# Altium integrated library AMCC PowerPC 405.IntLib: 46 symbols (part 2 of 12)
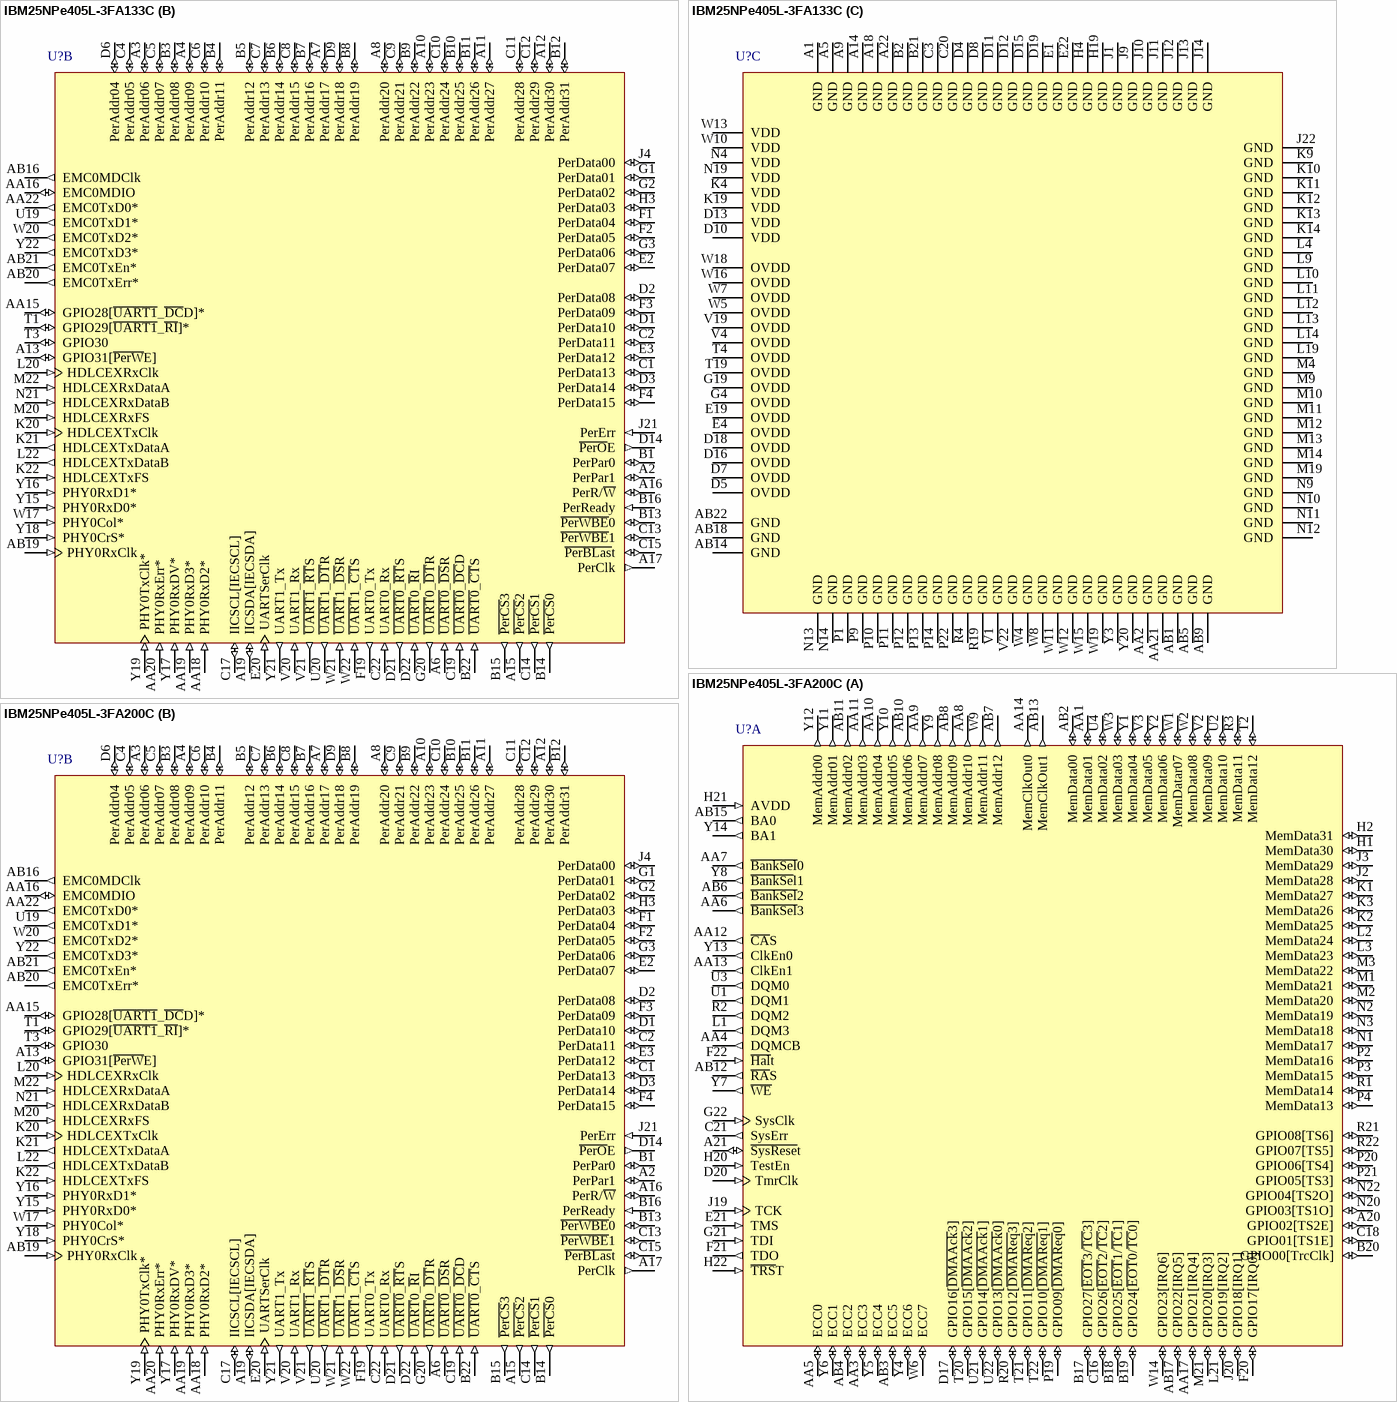
[diagram p119: symbols IBM25NPe405L-3FA133C to IBM25NPe405L-3FA200C]

## IBM25NPe405L-3FA133C
designator U?
PowerNP Technology with IBM PowerPC,  405L Embedded Processor, 133MHz, 23mm, 324 Ball E-PBGA; Note: Pin names with asterisk have Ethernet and HDLCEX interface multifunctions. See description field for those functions.; Published: 6-Oct-2005; LatestRevisionDate: 13-Apr-2006; LatestRevisionNote: IPC-7351 Footprint Added.; DatasheetVersion: rev1.00, Sep-2004; PackageVersion: Sep-2004; PackageReference: E-PBGA324; Publisher: Altium Limited; PackageDescription: 324-Ball Enhanced Plastic Ball Grid Array; ComponentLink1Description: Manufacturer Link; ComponentLink1URL: http://www.amcc.com/; ComponentLink2Description: Datasheet; ComponentLink2URL: https://www.amcc.com/MyAMCC/retrieveDocument/PowerPC/NPe405/NPe405L_DS2012__v1_00.pdf
footprint E-PBGA324 (BGA, 324-Leads, Body 23x23mm, Pitch 1mm)
3D model NPe405L-E-PBGA324 (324-Ball Enhanced Plastic Ball Grid Array)
part A pins: A20 GPIO02[TS2E] (io), A21 ~{SysRese}t (io), AA1 MemData01 (io), AA3 ECC3 (io), AA4 DQMCB (out), AA5 ECC0 (io), AA6 ~{BankSel}3 (out), AA7 ~{BankSel}0 (out), AA8 MemAddr10 (out), AA9 MemAddr07 (out), AA10 MemAddr04 (out), AA11 MemAddr03 (out), AA12 ~{CA}S (out), AA13 ClkEn1 (out), AA14 MemClkOut0 (out), AA17 GPIO21[IRQ4] (io), AB2 MemData00 (io), AB3 ECC5 (io), AB4 ECC2 (io), AB6 ~{BankSel}2 (out), AB7 MemAddr12 (out), AB8 MemAddr09 (out), AB10 MemAddr06 (out), AB11 MemAddr02 (out), AB12 ~{RA}S (out), AB13 MemClkOut1 (out), AB15 BA0 (out), AB17 GPIO22[IRQ5] (io), B17 GPIO27[~{EOT}3/~{TC}3] (io), B18 GPIO25[~{EOT}1/~{TC}1] (io), B19 GPIO24[~{EOT}0/~{TC}0] (io), B20 GPIO00[TrcClk] (io), C16 GPIO26[~{EOT}2/~{TC}2] (io), C18 GPIO01[TS1E] (io), C21 SysErr (out), D17 GPIO16[~{DMAAck}3] (io), D20 TmrClk (in), E21 TMS (in), F20 GPIO17[IRQ0] (io), F21 TDO (out), F22 ~{Hal}t (in), G21 TDI (in), G22 SysClk (in), H1 MemData30 (io), H2 MemData31 (io), H20 TestEn (in), H21 AVDD (in), H22 ~{TRS}T (in), J2 MemData28 (io), J3 MemData29 (io), J19 TCK (in), J20 GPIO18[IRQ1] (io), K1 MemData27 (io), K2 MemData25 (io), K3 MemData26 (io), L1 DQM3 (out), L2 MemData24 (io), L3 MemData23 (io), L21 GPIO19[IRQ2] (io), M1 MemData21 (io), M2 MemData20 (io), M3 MemData22 (io), M21 GPIO20[IRQ3] (io), N1 MemData17 (io), N2 MemData19 (io), N3 MemData18 (io), N20 GPIO03[TS1O] (io), N22 GPIO04[TS2O] (io), P2 MemData16 (io), P3 MemData15 (io), P4 MemData13 (io), P19 GPIO09[~{DMAReq}0] (io), P20 GPIO06[TS4] (io), P21 GPIO05[TS3] (io), R1 MemData14 (io), R2 DQM2 (out), R3 MemData11 (io), R20 GPIO12[~{DMAReq}3] (io), R21 GPIO08[TS6] (io), R22 GPIO07[TS5] (io), T2 MemData12 (io), T20 GPIO15[~{DMAAck}2] (io), T21 GPIO11[~{DMAReq}2] (io), T22 GPIO10[~{DMAReq}1] (io), U1 DQM1 (out), U2 MemData10 (io), U3 DQM0 (out), U4 MemData02 (io), U21 GPIO14[~{DMAAck}1] (io), U22 GPIO13[~{DMAAck}0] (io), V2 MemData09 (io), V3 MemData05 (io), W1 MemDatar07 (io), W2 MemData08 (io), W3 MemData03 (io), W6 ECC7 (io), W9 MemAddr11 (out), W14 GPIO23[IRQ6] (io), Y1 MemData04 (io), Y2 MemData06 (io), Y4 ECC6 (io), Y5 ECC4 (io), Y6 ECC1 (io), Y7 ~{WE} (out), Y8 ~{BankSe}l1 (out), Y9 MemAddr08 (out), Y10 MemAddr05 (out), Y11 MemAddr01 (out), Y12 MemAddr00 (out), Y13 ClkEn0 (out), Y14 BA1 (out)
part B pins: A2 PerPar1 (io), A3 PerAddr06 (io), A4 PerAddr09 (io), A6 ~{UART0}_~{DS}R (in), A7 PerAddr17 (io), A8 PerAddr20 (io), A10 PerAddr23 (io), A11 PerAddr27 (io), A12 PerAddr30 (io), A13 GPIO31[~{PerW}E] (io), A15 ~{PerCS}2 (out), A16 PerR/~{W} (io), A17 PerClk (out), A19 IICSDA[IECSDA] (io), AA15 GPIO28[~{UART1}_~{DC}D]* (io) "[H\D\L\C\EXTxEnA]", AA16 EMC0MDIO (io), AA18 PHY0RxD2* (in) "[PHY0Rx1D0]", AA19 PHY0RxD3* (in) "[PHY0Rx1D1]", AA20 PHY0RxErr* (in) "[PHY0Rx0Er]", AA22 EMC0TxD0* (out) "[EMC0Tx0D0][EMC0Tx0D]", AB16 EMC0MDClk (out), AB19 PHY0RxClk (in), AB20 EMC0TxErr* (out) "[EMC0Tx1En]", AB21 EMC0TxEn* (out) "[EMC0Tx0En][EMC0Sync]", B1 PerPar0 (io), B3 PerAddr08 (io), B4 PerAddr11 (io), B5 PerAddr12 (io), B6 PerAddr14 (io), B7 PerAddr16 (io), B8 PerAddr19 (io), B9 PerAddr22 (io), B10 PerAddr25 (io), B11 PerAddr26 (io), B12 PerAddr31 (io), B13 ~{PerWBE}0 (io), B14 ~{PerCS}0 (out), B15 ~{PerCS}3 (out), B16 PerReady (in), B22 ~{UART0}_~{CT}S (in), C1 PerData13 (io), C2 PerData11 (io), C4 PerAddr05 (io), C5 PerAddr07 (io), C6 PerAddr10 (io), C7 PerAddr13 (io), C8 PerAddr15 (io), C9 PerAddr21 (io), C10 PerAddr24 (io), C11 PerAddr28 (io), C12 PerAddr29 (io), C13 ~{PerWBE}1 (io), C14 ~{PerCS}1 (out), C15 ~{PerBLas}t (io), C17 IICSCL[IECSCL] (io), C19 ~{UART0}_~{DC}D (in), C22 UART0_Rx (in), D1 PerData10 (io), D2 PerData08 (io), D3 PerData14 (io), D6 PerAddr04 (io), D9 PerAddr18 (io), D14 ~{PerO}E (out), D21 ~{UART0}_~{RT}S (out), D22 ~{UART}0_~{R}I (in), E2 PerData07 (io), E3 PerData12 (io), E20 UARTSerClk (in), F1 PerData04 (io), F2 PerData05 (io), F3 PerData09 (io), F4 PerData15 (io), F19 UART0_Tx (out), G1 PerData01 (io), G2 PerData02 (io), G3 PerData06 (io), G20 ~{UART}0_~{DT}R (out), H3 PerData03 (io), J4 PerData00 (io), J21 PerErr (in), K20 HDLCEXTxClk (in), K21 HDLCEXTxDataA (out), K22 HDLCEXTxFS (in), L20 HDLCEXRxClk (in), L22 HDLCEXTxDataB (out), M20 HDLCEXRxFS (in), M22 HDLCEXRxDataA (in), N21 HDLCEXRxDataB (in), T1 GPIO29[~{UART1}_~{RI}]* (io) "[H\D\L\C\E\X\T\x\E\n\B]", T3 GPIO30 (io), U19 EMC0TxD1* (out) "[EMC0Tx0D1][EMC0Tx1D]", U20 ~{UART}1_~{DT}R (out), V20 UART1_Rx (in), V21 ~{UART1}_~{RT}S (out), W17 PHY0Col* (in) "[PHY0Rx1Er]", W20 EMC0TxD2* (out) "[EMC0Tx1D0]", W21 ~{UART}1_~{DS}R (in), W22 ~{UART}1_~{CT}S (in), Y15 PHY0RxD0* (in) "[PHY0Rx0D0][PHY0Rx0D]", Y16 PHY0RxD1* (in) "[PHY0Rx0D1][PHY0Rx1D]", Y17 PHY0RxDV* (in) "[PHY0CrS1DV]", Y18 PHY0CrS* (in) "[PHY0CrS0DV]", Y19 PHY0TxClk* (in) "[PHY0RefClk]", Y21 UART1_Tx (out), Y22 EMC0TxD3* (out) "[EMC0Tx1D1]"
part C pins: A1 GND (power), A5 GND (power), A9 GND (power), A14 GND (power), A18 GND (power), A22 GND (power), AA2 GND (power), AA21 GND (power), AB1 GND (power), AB5 GND (power), AB9 GND (power), AB14 GND (power), AB18 GND (power), AB22 GND (power), B2 GND (power), B21 GND (power), C3 GND (power), C20 GND (power), D4 GND (power), D5 OVDD (power), D7 OVDD (power), D8 GND (power), D10 VDD (power), D11 GND (power), D12 GND (power), D13 VDD (power), D15 GND (power), D16 OVDD (power), D18 OVDD (power), D19 GND (power), E1 GND (power), E4 OVDD (power), E19 OVDD (power), E22 GND (power), G4 OVDD (power), G19 OVDD (power), H4 GND (power), H19 GND (power), J1 GND (power), J9 GND (power) "Thermal Balls", J10 GND (power) "Thermal Balls", J11 GND (power) "Thermal Balls", J12 GND (power) "Thermal Balls", J13 GND (power) "Thermal Balls", J14 GND (power) "Thermal Balls", J22 GND (power), K4 VDD (power), K9 GND (power) "Thermal Balls", K10 GND (power) "Thermal Balls", K11 GND (power) "Thermal Balls", K12 GND (power) "Thermal Balls", K13 GND (power) "Thermal Balls", K14 GND (power) "Thermal Balls", K19 VDD (power), L4 GND (power), L9 GND (power) "Thermal Balls", L10 GND (power) "Thermal Balls", L11 GND (power) "Thermal Balls", L12 GND (power) "Thermal Balls", L13 GND (power) "Thermal Balls", L14 GND (power) "Thermal Balls", L19 GND (power), M4 GND (power), M9 GND (power) "Thermal Balls", M10 GND (power) "Thermal Balls", M11 GND (power) "Thermal Balls", M12 GND (power) "Thermal Balls", M13 GND (power) "Thermal Balls", M14 GND (power) "Thermal Balls", M19 GND (power), N4 VDD (power), N9 GND (power) "Thermal Balls", N10 GND (power) "Thermal Balls", N11 GND (power) "Thermal Balls", N12 GND (power) "Thermal Balls", N13 GND (power) "Thermal Balls", N14 GND (power) "Thermal Balls", N19 VDD (power), P1 GND (power), P9 GND (power) "Thermal Balls", P10 GND (power) "Thermal Balls", P11 GND (power) "Thermal Balls", P12 GND (power) "Thermal Balls", P13 GND (power) "Thermal Balls", P14 GND (power) "Thermal Balls", P22 GND (power), R4 GND (power), R19 GND (power), T4 OVDD (power), T19 OVDD (power), V1 GND (power), V4 OVDD (power), V19 OVDD (power), V22 GND (power), W4 GND (power), W5 OVDD (power), W7 OVDD (power), W8 GND (power), W10 VDD (power), W11 GND (power), W12 GND (power), W13 VDD (power), W15 GND (power), W16 OVDD (power), W18 OVDD (power), W19 GND (power), Y3 GND (power), Y20 GND (power)

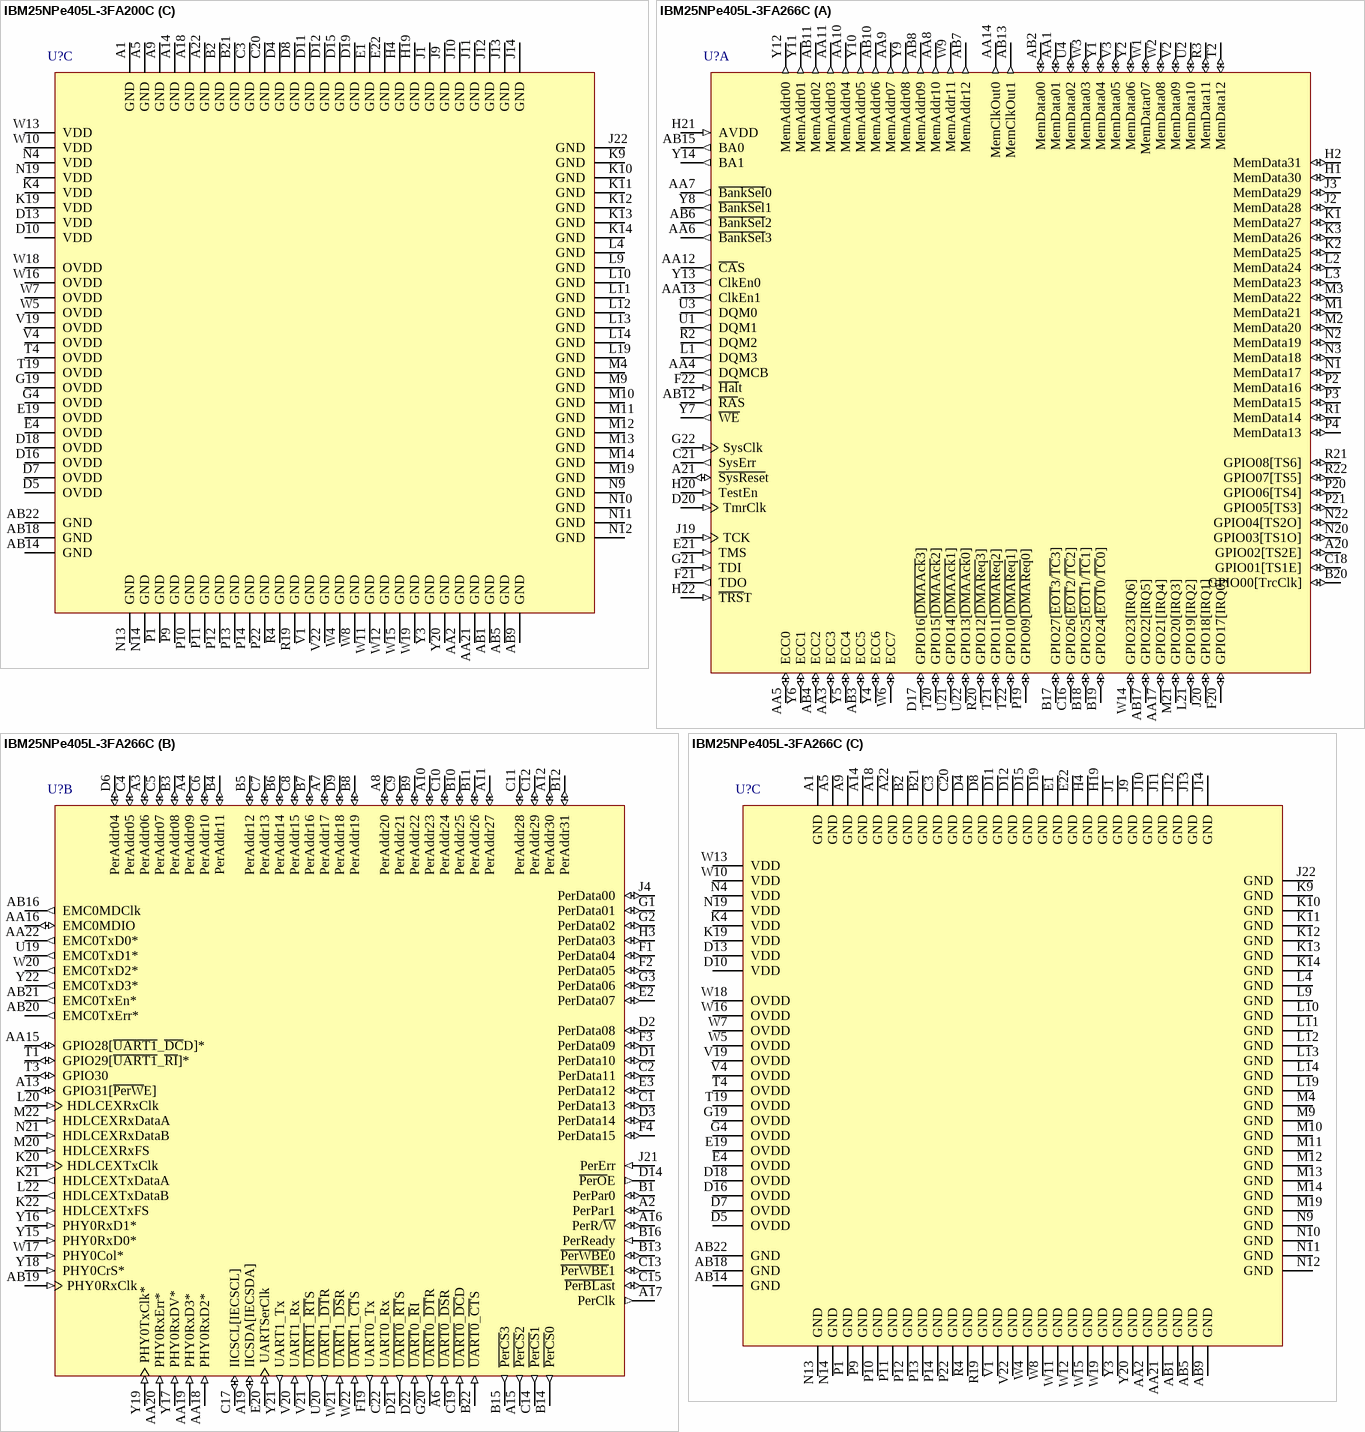
[diagram p10: symbols IBM25NPe405L-3FA200C to IBM25NPe405L-3FA266C]

## IBM25NPe405L-3FA200C
designator U?
PowerNP Technology with IBM PowerPC,  405L Embedded Processor, 200MHz, 23mm, 324 Ball E-PBGA; Note: Pin names with asterisk have Ethernet and HDLCEX interface multifunctions. See description field for those functions.; Published: 6-Oct-2005; LatestRevisionDate: 13-Apr-2006; LatestRevisionNote: IPC-7351 Footprint Added.; DatasheetVersion: rev1.00, Sep-2004; PackageVersion: Sep-2004; PackageReference: E-PBGA324; Publisher: Altium Limited; PackageDescription: 324-Ball Enhanced Plastic Ball Grid Array; ComponentLink1Description: Manufacturer Link; ComponentLink1URL: http://www.amcc.com/; ComponentLink2Description: Datasheet; ComponentLink2URL: https://www.amcc.com/MyAMCC/retrieveDocument/PowerPC/NPe405/NPe405L_DS2012__v1_00.pdf
footprint E-PBGA324 (BGA, 324-Leads, Body 23x23mm, Pitch 1mm)
3D model NPe405L-E-PBGA324 (324-Ball Enhanced Plastic Ball Grid Array)
part A pins: A20 GPIO02[TS2E] (io), A21 ~{SysRese}t (io), AA1 MemData01 (io), AA3 ECC3 (io), AA4 DQMCB (out), AA5 ECC0 (io), AA6 ~{BankSel}3 (out), AA7 ~{BankSel}0 (out), AA8 MemAddr10 (out), AA9 MemAddr07 (out), AA10 MemAddr04 (out), AA11 MemAddr03 (out), AA12 ~{CA}S (out), AA13 ClkEn1 (out), AA14 MemClkOut0 (out), AA17 GPIO21[IRQ4] (io), AB2 MemData00 (io), AB3 ECC5 (io), AB4 ECC2 (io), AB6 ~{BankSel}2 (out), AB7 MemAddr12 (out), AB8 MemAddr09 (out), AB10 MemAddr06 (out), AB11 MemAddr02 (out), AB12 ~{RA}S (out), AB13 MemClkOut1 (out), AB15 BA0 (out), AB17 GPIO22[IRQ5] (io), B17 GPIO27[~{EOT}3/~{TC}3] (io), B18 GPIO25[~{EOT}1/~{TC}1] (io), B19 GPIO24[~{EOT}0/~{TC}0] (io), B20 GPIO00[TrcClk] (io), C16 GPIO26[~{EOT}2/~{TC}2] (io), C18 GPIO01[TS1E] (io), C21 SysErr (out), D17 GPIO16[~{DMAAck}3] (io), D20 TmrClk (in), E21 TMS (in), F20 GPIO17[IRQ0] (io), F21 TDO (out), F22 ~{Hal}t (in), G21 TDI (in), G22 SysClk (in), H1 MemData30 (io), H2 MemData31 (io), H20 TestEn (in), H21 AVDD (in), H22 ~{TRS}T (in), J2 MemData28 (io), J3 MemData29 (io), J19 TCK (in), J20 GPIO18[IRQ1] (io), K1 MemData27 (io), K2 MemData25 (io), K3 MemData26 (io), L1 DQM3 (out), L2 MemData24 (io), L3 MemData23 (io), L21 GPIO19[IRQ2] (io), M1 MemData21 (io), M2 MemData20 (io), M3 MemData22 (io), M21 GPIO20[IRQ3] (io), N1 MemData17 (io), N2 MemData19 (io), N3 MemData18 (io), N20 GPIO03[TS1O] (io), N22 GPIO04[TS2O] (io), P2 MemData16 (io), P3 MemData15 (io), P4 MemData13 (io), P19 GPIO09[~{DMAReq}0] (io), P20 GPIO06[TS4] (io), P21 GPIO05[TS3] (io), R1 MemData14 (io), R2 DQM2 (out), R3 MemData11 (io), R20 GPIO12[~{DMAReq}3] (io), R21 GPIO08[TS6] (io), R22 GPIO07[TS5] (io), T2 MemData12 (io), T20 GPIO15[~{DMAAck}2] (io), T21 GPIO11[~{DMAReq}2] (io), T22 GPIO10[~{DMAReq}1] (io), U1 DQM1 (out), U2 MemData10 (io), U3 DQM0 (out), U4 MemData02 (io), U21 GPIO14[~{DMAAck}1] (io), U22 GPIO13[~{DMAAck}0] (io), V2 MemData09 (io), V3 MemData05 (io), W1 MemDatar07 (io), W2 MemData08 (io), W3 MemData03 (io), W6 ECC7 (io), W9 MemAddr11 (out), W14 GPIO23[IRQ6] (io), Y1 MemData04 (io), Y2 MemData06 (io), Y4 ECC6 (io), Y5 ECC4 (io), Y6 ECC1 (io), Y7 ~{WE} (out), Y8 ~{BankSe}l1 (out), Y9 MemAddr08 (out), Y10 MemAddr05 (out), Y11 MemAddr01 (out), Y12 MemAddr00 (out), Y13 ClkEn0 (out), Y14 BA1 (out)
part B pins: A2 PerPar1 (io), A3 PerAddr06 (io), A4 PerAddr09 (io), A6 ~{UART0}_~{DS}R (in), A7 PerAddr17 (io), A8 PerAddr20 (io), A10 PerAddr23 (io), A11 PerAddr27 (io), A12 PerAddr30 (io), A13 GPIO31[~{PerW}E] (io), A15 ~{PerCS}2 (out), A16 PerR/~{W} (io), A17 PerClk (out), A19 IICSDA[IECSDA] (io), AA15 GPIO28[~{UART1}_~{DC}D]* (io) "[H\D\L\C\EXTxEnA]", AA16 EMC0MDIO (io), AA18 PHY0RxD2* (in) "[PHY0Rx1D0]", AA19 PHY0RxD3* (in) "[PHY0Rx1D1]", AA20 PHY0RxErr* (in) "[PHY0Rx0Er]", AA22 EMC0TxD0* (out) "[EMC0Tx0D0][EMC0Tx0D]", AB16 EMC0MDClk (out), AB19 PHY0RxClk (in), AB20 EMC0TxErr* (out) "[EMC0Tx1En]", AB21 EMC0TxEn* (out) "[EMC0Tx0En][EMC0Sync]", B1 PerPar0 (io), B3 PerAddr08 (io), B4 PerAddr11 (io), B5 PerAddr12 (io), B6 PerAddr14 (io), B7 PerAddr16 (io), B8 PerAddr19 (io), B9 PerAddr22 (io), B10 PerAddr25 (io), B11 PerAddr26 (io), B12 PerAddr31 (io), B13 ~{PerWBE}0 (io), B14 ~{PerCS}0 (out), B15 ~{PerCS}3 (out), B16 PerReady (in), B22 ~{UART0}_~{CT}S (in), C1 PerData13 (io), C2 PerData11 (io), C4 PerAddr05 (io), C5 PerAddr07 (io), C6 PerAddr10 (io), C7 PerAddr13 (io), C8 PerAddr15 (io), C9 PerAddr21 (io), C10 PerAddr24 (io), C11 PerAddr28 (io), C12 PerAddr29 (io), C13 ~{PerWBE}1 (io), C14 ~{PerCS}1 (out), C15 ~{PerBLas}t (io), C17 IICSCL[IECSCL] (io), C19 ~{UART0}_~{DC}D (in), C22 UART0_Rx (in), D1 PerData10 (io), D2 PerData08 (io), D3 PerData14 (io), D6 PerAddr04 (io), D9 PerAddr18 (io), D14 ~{PerO}E (out), D21 ~{UART0}_~{RT}S (out), D22 ~{UART}0_~{R}I (in), E2 PerData07 (io), E3 PerData12 (io), E20 UARTSerClk (in), F1 PerData04 (io), F2 PerData05 (io), F3 PerData09 (io), F4 PerData15 (io), F19 UART0_Tx (out), G1 PerData01 (io), G2 PerData02 (io), G3 PerData06 (io), G20 ~{UART}0_~{DT}R (out), H3 PerData03 (io), J4 PerData00 (io), J21 PerErr (in), K20 HDLCEXTxClk (in), K21 HDLCEXTxDataA (out), K22 HDLCEXTxFS (in), L20 HDLCEXRxClk (in), L22 HDLCEXTxDataB (out), M20 HDLCEXRxFS (in), M22 HDLCEXRxDataA (in), N21 HDLCEXRxDataB (in), T1 GPIO29[~{UART1}_~{RI}]* (io) "[H\D\L\C\E\X\T\x\E\n\B]", T3 GPIO30 (io), U19 EMC0TxD1* (out) "[EMC0Tx0D1][EMC0Tx1D]", U20 ~{UART}1_~{DT}R (out), V20 UART1_Rx (in), V21 ~{UART1}_~{RT}S (out), W17 PHY0Col* (in) "[PHY0Rx1Er]", W20 EMC0TxD2* (out) "[EMC0Tx1D0]", W21 ~{UART}1_~{DS}R (in), W22 ~{UART}1_~{CT}S (in), Y15 PHY0RxD0* (in) "[PHY0Rx0D0][PHY0Rx0D]", Y16 PHY0RxD1* (in) "[PHY0Rx0D1][PHY0Rx1D]", Y17 PHY0RxDV* (in) "[PHY0CrS1DV]", Y18 PHY0CrS* (in) "[PHY0CrS0DV]", Y19 PHY0TxClk* (in) "[PHY0RefClk]", Y21 UART1_Tx (out), Y22 EMC0TxD3* (out) "[EMC0Tx1D1]"
part C pins: A1 GND (power), A5 GND (power), A9 GND (power), A14 GND (power), A18 GND (power), A22 GND (power), AA2 GND (power), AA21 GND (power), AB1 GND (power), AB5 GND (power), AB9 GND (power), AB14 GND (power), AB18 GND (power), AB22 GND (power), B2 GND (power), B21 GND (power), C3 GND (power), C20 GND (power), D4 GND (power), D5 OVDD (power), D7 OVDD (power), D8 GND (power), D10 VDD (power), D11 GND (power), D12 GND (power), D13 VDD (power), D15 GND (power), D16 OVDD (power), D18 OVDD (power), D19 GND (power), E1 GND (power), E4 OVDD (power), E19 OVDD (power), E22 GND (power), G4 OVDD (power), G19 OVDD (power), H4 GND (power), H19 GND (power), J1 GND (power), J9 GND (power) "Thermal Balls", J10 GND (power) "Thermal Balls", J11 GND (power) "Thermal Balls", J12 GND (power) "Thermal Balls", J13 GND (power) "Thermal Balls", J14 GND (power) "Thermal Balls", J22 GND (power), K4 VDD (power), K9 GND (power) "Thermal Balls", K10 GND (power) "Thermal Balls", K11 GND (power) "Thermal Balls", K12 GND (power) "Thermal Balls", K13 GND (power) "Thermal Balls", K14 GND (power) "Thermal Balls", K19 VDD (power), L4 GND (power), L9 GND (power) "Thermal Balls", L10 GND (power) "Thermal Balls", L11 GND (power) "Thermal Balls", L12 GND (power) "Thermal Balls", L13 GND (power) "Thermal Balls", L14 GND (power) "Thermal Balls", L19 GND (power), M4 GND (power), M9 GND (power) "Thermal Balls", M10 GND (power) "Thermal Balls", M11 GND (power) "Thermal Balls", M12 GND (power) "Thermal Balls", M13 GND (power) "Thermal Balls", M14 GND (power) "Thermal Balls", M19 GND (power), N4 VDD (power), N9 GND (power) "Thermal Balls", N10 GND (power) "Thermal Balls", N11 GND (power) "Thermal Balls", N12 GND (power) "Thermal Balls", N13 GND (power) "Thermal Balls", N14 GND (power) "Thermal Balls", N19 VDD (power), P1 GND (power), P9 GND (power) "Thermal Balls", P10 GND (power) "Thermal Balls", P11 GND (power) "Thermal Balls", P12 GND (power) "Thermal Balls", P13 GND (power) "Thermal Balls", P14 GND (power) "Thermal Balls", P22 GND (power), R4 GND (power), R19 GND (power), T4 OVDD (power), T19 OVDD (power), V1 GND (power), V4 OVDD (power), V19 OVDD (power), V22 GND (power), W4 GND (power), W5 OVDD (power), W7 OVDD (power), W8 GND (power), W10 VDD (power), W11 GND (power), W12 GND (power), W13 VDD (power), W15 GND (power), W16 OVDD (power), W18 OVDD (power), W19 GND (power), Y3 GND (power), Y20 GND (power)

## IBM25NPe405L-3FA266C
designator U?
PowerNP Technology with IBM PowerPC,  405L Embedded Processor, 266MHz, 23mm, 324 Ball E-PBGA; Note: Pin names with asterisk have Ethernet and HDLCEX interface multifunctions. See description field for those functions.; Published: 6-Oct-2005; LatestRevisionDate: 13-Apr-2006; LatestRevisionNote: IPC-7351 Footprint Added.; DatasheetVersion: rev1.00, Sep-2004; PackageVersion: Sep-2004; PackageReference: E-PBGA324; Publisher: Altium Limited; PackageDescription: 324-Ball Enhanced Plastic Ball Grid Array; ComponentLink1Description: Manufacturer Link; ComponentLink1URL: http://www.amcc.com/; ComponentLink2Description: Datasheet; ComponentLink2URL: https://www.amcc.com/MyAMCC/retrieveDocument/PowerPC/NPe405/NPe405L_DS2012__v1_00.pdf
footprint E-PBGA324 (BGA, 324-Leads, Body 23x23mm, Pitch 1mm)
3D model NPe405L-E-PBGA324 (324-Ball Enhanced Plastic Ball Grid Array)
part A pins: A20 GPIO02[TS2E] (io), A21 ~{SysRese}t (io), AA1 MemData01 (io), AA3 ECC3 (io), AA4 DQMCB (out), AA5 ECC0 (io), AA6 ~{BankSel}3 (out), AA7 ~{BankSel}0 (out), AA8 MemAddr10 (out), AA9 MemAddr07 (out), AA10 MemAddr04 (out), AA11 MemAddr03 (out), AA12 ~{CA}S (out), AA13 ClkEn1 (out), AA14 MemClkOut0 (out), AA17 GPIO21[IRQ4] (io), AB2 MemData00 (io), AB3 ECC5 (io), AB4 ECC2 (io), AB6 ~{BankSel}2 (out), AB7 MemAddr12 (out), AB8 MemAddr09 (out), AB10 MemAddr06 (out), AB11 MemAddr02 (out), AB12 ~{RA}S (out), AB13 MemClkOut1 (out), AB15 BA0 (out), AB17 GPIO22[IRQ5] (io), B17 GPIO27[~{EOT}3/~{TC}3] (io), B18 GPIO25[~{EOT}1/~{TC}1] (io), B19 GPIO24[~{EOT}0/~{TC}0] (io), B20 GPIO00[TrcClk] (io), C16 GPIO26[~{EOT}2/~{TC}2] (io), C18 GPIO01[TS1E] (io), C21 SysErr (out), D17 GPIO16[~{DMAAck}3] (io), D20 TmrClk (in), E21 TMS (in), F20 GPIO17[IRQ0] (io), F21 TDO (out), F22 ~{Hal}t (in), G21 TDI (in), G22 SysClk (in), H1 MemData30 (io), H2 MemData31 (io), H20 TestEn (in), H21 AVDD (in), H22 ~{TRS}T (in), J2 MemData28 (io), J3 MemData29 (io), J19 TCK (in), J20 GPIO18[IRQ1] (io), K1 MemData27 (io), K2 MemData25 (io), K3 MemData26 (io), L1 DQM3 (out), L2 MemData24 (io), L3 MemData23 (io), L21 GPIO19[IRQ2] (io), M1 MemData21 (io), M2 MemData20 (io), M3 MemData22 (io), M21 GPIO20[IRQ3] (io), N1 MemData17 (io), N2 MemData19 (io), N3 MemData18 (io), N20 GPIO03[TS1O] (io), N22 GPIO04[TS2O] (io), P2 MemData16 (io), P3 MemData15 (io), P4 MemData13 (io), P19 GPIO09[~{DMAReq}0] (io), P20 GPIO06[TS4] (io), P21 GPIO05[TS3] (io), R1 MemData14 (io), R2 DQM2 (out), R3 MemData11 (io), R20 GPIO12[~{DMAReq}3] (io), R21 GPIO08[TS6] (io), R22 GPIO07[TS5] (io), T2 MemData12 (io), T20 GPIO15[~{DMAAck}2] (io), T21 GPIO11[~{DMAReq}2] (io), T22 GPIO10[~{DMAReq}1] (io), U1 DQM1 (out), U2 MemData10 (io), U3 DQM0 (out), U4 MemData02 (io), U21 GPIO14[~{DMAAck}1] (io), U22 GPIO13[~{DMAAck}0] (io), V2 MemData09 (io), V3 MemData05 (io), W1 MemDatar07 (io), W2 MemData08 (io), W3 MemData03 (io), W6 ECC7 (io), W9 MemAddr11 (out), W14 GPIO23[IRQ6] (io), Y1 MemData04 (io), Y2 MemData06 (io), Y4 ECC6 (io), Y5 ECC4 (io), Y6 ECC1 (io), Y7 ~{WE} (out), Y8 ~{BankSe}l1 (out), Y9 MemAddr08 (out), Y10 MemAddr05 (out), Y11 MemAddr01 (out), Y12 MemAddr00 (out), Y13 ClkEn0 (out), Y14 BA1 (out)
part B pins: A2 PerPar1 (io), A3 PerAddr06 (io), A4 PerAddr09 (io), A6 ~{UART0}_~{DS}R (in), A7 PerAddr17 (io), A8 PerAddr20 (io), A10 PerAddr23 (io), A11 PerAddr27 (io), A12 PerAddr30 (io), A13 GPIO31[~{PerW}E] (io), A15 ~{PerCS}2 (out), A16 PerR/~{W} (io), A17 PerClk (out), A19 IICSDA[IECSDA] (io), AA15 GPIO28[~{UART1}_~{DC}D]* (io) "[H\D\L\C\EXTxEnA]", AA16 EMC0MDIO (io), AA18 PHY0RxD2* (in) "[PHY0Rx1D0]", AA19 PHY0RxD3* (in) "[PHY0Rx1D1]", AA20 PHY0RxErr* (in) "[PHY0Rx0Er]", AA22 EMC0TxD0* (out) "[EMC0Tx0D0][EMC0Tx0D]", AB16 EMC0MDClk (out), AB19 PHY0RxClk (in), AB20 EMC0TxErr* (out) "[EMC0Tx1En]", AB21 EMC0TxEn* (out) "[EMC0Tx0En][EMC0Sync]", B1 PerPar0 (io), B3 PerAddr08 (io), B4 PerAddr11 (io), B5 PerAddr12 (io), B6 PerAddr14 (io), B7 PerAddr16 (io), B8 PerAddr19 (io), B9 PerAddr22 (io), B10 PerAddr25 (io), B11 PerAddr26 (io), B12 PerAddr31 (io), B13 ~{PerWBE}0 (io), B14 ~{PerCS}0 (out), B15 ~{PerCS}3 (out), B16 PerReady (in), B22 ~{UART0}_~{CT}S (in), C1 PerData13 (io), C2 PerData11 (io), C4 PerAddr05 (io), C5 PerAddr07 (io), C6 PerAddr10 (io), C7 PerAddr13 (io), C8 PerAddr15 (io), C9 PerAddr21 (io), C10 PerAddr24 (io), C11 PerAddr28 (io), C12 PerAddr29 (io), C13 ~{PerWBE}1 (io), C14 ~{PerCS}1 (out), C15 ~{PerBLas}t (io), C17 IICSCL[IECSCL] (io), C19 ~{UART0}_~{DC}D (in), C22 UART0_Rx (in), D1 PerData10 (io), D2 PerData08 (io), D3 PerData14 (io), D6 PerAddr04 (io), D9 PerAddr18 (io), D14 ~{PerO}E (out), D21 ~{UART0}_~{RT}S (out), D22 ~{UART}0_~{R}I (in), E2 PerData07 (io), E3 PerData12 (io), E20 UARTSerClk (in), F1 PerData04 (io), F2 PerData05 (io), F3 PerData09 (io), F4 PerData15 (io), F19 UART0_Tx (out), G1 PerData01 (io), G2 PerData02 (io), G3 PerData06 (io), G20 ~{UART}0_~{DT}R (out), H3 PerData03 (io), J4 PerData00 (io), J21 PerErr (in), K20 HDLCEXTxClk (in), K21 HDLCEXTxDataA (out), K22 HDLCEXTxFS (in), L20 HDLCEXRxClk (in), L22 HDLCEXTxDataB (out), M20 HDLCEXRxFS (in), M22 HDLCEXRxDataA (in), N21 HDLCEXRxDataB (in), T1 GPIO29[~{UART1}_~{RI}]* (io) "[H\D\L\C\E\X\T\x\E\n\B]", T3 GPIO30 (io), U19 EMC0TxD1* (out) "[EMC0Tx0D1][EMC0Tx1D]", U20 ~{UART}1_~{DT}R (out), V20 UART1_Rx (in), V21 ~{UART1}_~{RT}S (out), W17 PHY0Col* (in) "[PHY0Rx1Er]", W20 EMC0TxD2* (out) "[EMC0Tx1D0]", W21 ~{UART}1_~{DS}R (in), W22 ~{UART}1_~{CT}S (in), Y15 PHY0RxD0* (in) "[PHY0Rx0D0][PHY0Rx0D]", Y16 PHY0RxD1* (in) "[PHY0Rx0D1][PHY0Rx1D]", Y17 PHY0RxDV* (in) "[PHY0CrS1DV]", Y18 PHY0CrS* (in) "[PHY0CrS0DV]", Y19 PHY0TxClk* (in) "[PHY0RefClk]", Y21 UART1_Tx (out), Y22 EMC0TxD3* (out) "[EMC0Tx1D1]"
part C pins: A1 GND (power), A5 GND (power), A9 GND (power), A14 GND (power), A18 GND (power), A22 GND (power), AA2 GND (power), AA21 GND (power), AB1 GND (power), AB5 GND (power), AB9 GND (power), AB14 GND (power), AB18 GND (power), AB22 GND (power), B2 GND (power), B21 GND (power), C3 GND (power), C20 GND (power), D4 GND (power), D5 OVDD (power), D7 OVDD (power), D8 GND (power), D10 VDD (power), D11 GND (power), D12 GND (power), D13 VDD (power), D15 GND (power), D16 OVDD (power), D18 OVDD (power), D19 GND (power), E1 GND (power), E4 OVDD (power), E19 OVDD (power), E22 GND (power), G4 OVDD (power), G19 OVDD (power), H4 GND (power), H19 GND (power), J1 GND (power), J9 GND (power) "Thermal Balls", J10 GND (power) "Thermal Balls", J11 GND (power) "Thermal Balls", J12 GND (power) "Thermal Balls", J13 GND (power) "Thermal Balls", J14 GND (power) "Thermal Balls", J22 GND (power), K4 VDD (power), K9 GND (power) "Thermal Balls", K10 GND (power) "Thermal Balls", K11 GND (power) "Thermal Balls", K12 GND (power) "Thermal Balls", K13 GND (power) "Thermal Balls", K14 GND (power) "Thermal Balls", K19 VDD (power), L4 GND (power), L9 GND (power) "Thermal Balls", L10 GND (power) "Thermal Balls", L11 GND (power) "Thermal Balls", L12 GND (power) "Thermal Balls", L13 GND (power) "Thermal Balls", L14 GND (power) "Thermal Balls", L19 GND (power), M4 GND (power), M9 GND (power) "Thermal Balls", M10 GND (power) "Thermal Balls", M11 GND (power) "Thermal Balls", M12 GND (power) "Thermal Balls", M13 GND (power) "Thermal Balls", M14 GND (power) "Thermal Balls", M19 GND (power), N4 VDD (power), N9 GND (power) "Thermal Balls", N10 GND (power) "Thermal Balls", N11 GND (power) "Thermal Balls", N12 GND (power) "Thermal Balls", N13 GND (power) "Thermal Balls", N14 GND (power) "Thermal Balls", N19 VDD (power), P1 GND (power), P9 GND (power) "Thermal Balls", P10 GND (power) "Thermal Balls", P11 GND (power) "Thermal Balls", P12 GND (power) "Thermal Balls", P13 GND (power) "Thermal Balls", P14 GND (power) "Thermal Balls", P22 GND (power), R4 GND (power), R19 GND (power), T4 OVDD (power), T19 OVDD (power), V1 GND (power), V4 OVDD (power), V19 OVDD (power), V22 GND (power), W4 GND (power), W5 OVDD (power), W7 OVDD (power), W8 GND (power), W10 VDD (power), W11 GND (power), W12 GND (power), W13 VDD (power), W15 GND (power), W16 OVDD (power), W18 OVDD (power), W19 GND (power), Y3 GND (power), Y20 GND (power)

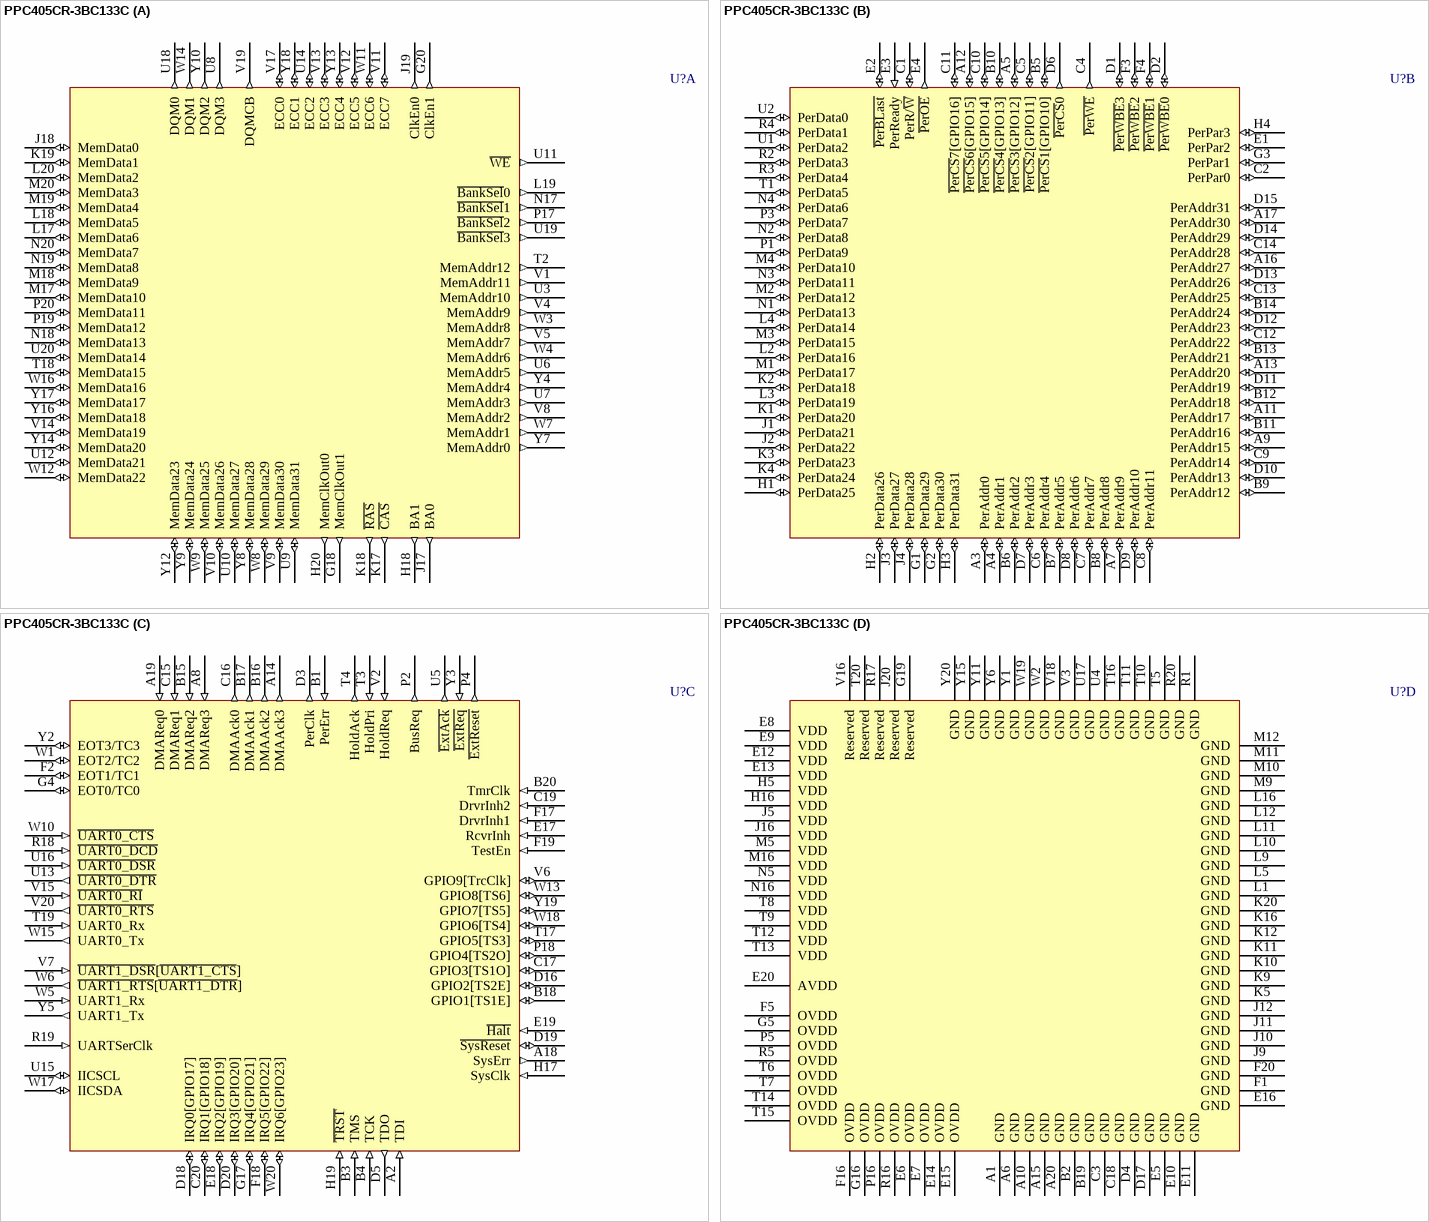
[diagram p11: symbol PPC405CR-3BC133C]

## PPC405CR-3BC133C
designator U?
PowerPC 405CR Embedded Processor, 133 MHz, 27mm, 316 Ball E-PBGA; Note: Pins J9-J12, K9-K12, L9-L12, and M9-M12 are also Thermal Balls.; Note: Connect G19 to GND. Do not connect signals, VDD or GND to any other Reserved pins.; Published: 6-Jun-2005; LatestRevisionDate: 13-Apr-2006; LatestRevisionNote: IPC-7351 Footprint Added.; DatasheetVersion: rev1.02, Jan-2005; PackageVersion: Jan-2005; PackageReference: E-PBGA316; Publisher: Altium Limited; PackageDescription: 316-Ball Enhanced Plastic Ball Grid Array; ComponentLink1Description: Manufacturer Link; ComponentLink1URL: http://www.amcc.com/; ComponentLink2Description: Datasheet; ComponentLink2URL: https://www.amcc.com/MyAMCC/retrieveDocument/PowerPC/405CR/PPC405CR_DS2007__v1_02.pdf
footprint E-PBGA316 (BGA, 316-Leads, Body 27x27mm, Pitch 1.27mm)
3D model PPC405CR-BGA316 (316-Ball Enhanced Plastic Ball Grid Array)
part A pins: G18 MemClkOut1 (out) "SDRAM Clock", G20 ClkEn1 (out) "SDRAM Clock Enable", H18 BA1 (out) "Bank Address", H20 MemClkOut0 (out) "SDRAM Clock", J17 BA0 (out) "Bank Address", J18 MemData0 (io) "Memory Data Bus (msb)", J19 ClkEn0 (out) "SDRAM Clock Enable", K17 ~{CAS} (out) "Column Address Strobe", K18 ~{RAS} (out) "Row Address Strobe", K19 MemData1 (io) "Memory Data Bus", L17 MemData6 (io) "Memory Data Bus", L18 MemData5 (io) "Memory Data Bus", L19 ~{BankSel}0 (out) "Select External SDRAM Bank", L20 MemData2 (io) "Memory Data Bus", M17 MemData10 (io) "Memory Data Bus", M18 MemData9 (io) "Memory Data Bus", M19 MemData4 (io) "Memory Data Bus", M20 MemData3 (io) "Memory Data Bus", N17 ~{BankSel}1 (out) "Select External SDRAM Bank", N18 MemData13 (io) "Memory Data Bus", N19 MemData8 (io) "Memory Data Bus", N20 MemData7 (io) "Memory Data Bus", P17 ~{BankSel}2 (out) "Select External SDRAM Bank", P19 MemData12 (io) "Memory Data Bus", P20 MemData11 (io) "Memory Data Bus", T2 MemAddr12 (out) "Memory Address Bus (msb)", T18 MemData15 (io) "Memory Data Bus", U3 MemAddr10 (out) "Memory Address Bus", U6 MemAddr5 (out) "Memory Address Bus", U7 MemAddr3 (out) "Memory Address Bus", U8 DQM3 (out) "DQM for byte lane 3 (MemData 24:31)", U9 MemData31 (io) "Memory Data Bus (lsb)", U10 MemData27 (io) "Memory Data Bus", U11 ~{WE} (out) "Write Enable", U12 MemData21 (io) "Memory Data Bus", U14 ECC2 (io) "Error Checking and Correction", U18 DQM0 (out) "DQM for byte lane 0 (MemData 0:7)", U19 ~{BankSel}3 (out) "Select External SDRAM Bank", U20 MemData14 (io) "Memory Data Bus", V1 MemAddr11 (out) "Memory Address Bus", V4 MemAddr9 (out) "Memory Address Bus", V5 MemAddr7 (out) "Memory Address Bus", V8 MemAddr2 (out) "Memory Address Bus", V9 MemData30 (io) "Memory Data Bus", V10 MemData26 (io) "Memory Data Bus", V11 ECC7 (io) "Error Checking and Correction", V12 ECC5 (io) "Error Checking and Correction", V13 ECC3 (io) "Error Checking and Correction", V14 MemData19 (io) "Memory Data Bus", V17 ECC0 (io) "Error Checking and Correction", V19 DQMCB (out) "DQM for ECC check bits", W3 MemAddr8 (out) "Memory Address Bus", W4 MemAddr6 (out) "Memory Address Bus", W7 MemAddr1 (out) "Memory Address Bus", W8 MemData29 (io) "Memory Data Bus", W9 MemData25 (io) "Memory Data Bus", W11 ECC6 (io) "Error Checking and Correction", W12 MemData22 (io) "Memory Data Bus", W14 DQM1 (out) "DQM for byte lane 1 (MemData 8:15)", W16 MemData16 (io) "Memory Data Bus", Y4 MemAddr4 (out) "Memory Address Bus", Y7 MemAddr0 (out) "Memory Address Bus (lsb)", Y8 MemData28 (io) "Memory Data Bus", Y9 MemData24 (io) "Memory Data Bus", Y10 DQM2 (out) "DQM for byte lane 2 (MemData 16:23)", Y12 MemData23 (io) "Memory Data Bus", Y13 ECC4 (io) "Error Checking and Correction", Y14 MemData20 (io) "Memory Data Bus", Y16 MemData18 (io) "Memory Data Bus", Y17 MemData17 (io) "Memory Data Bus", Y18 ECC1 (io) "Error Checking and Correction"
part B pins: A3 PerAddr0 (io) "Peripheral Address Bus (msb)", A4 PerAddr1 (io) "Peripheral Address Bus", A5 ~{PerCS}3[GPIO12] (io) "Peripheral Chip Select Bank 3 or General Purpose I/O", A7 PerAddr9 (io) "Peripheral Address Bus", A9 PerAddr15 (io) "Peripheral Address Bus", A11 PerAddr17 (io) "Peripheral Address Bus", A12 ~{PerCS}6[GPIO15] (io) "Peripheral Chip Select Bank 6 or General Purpose I/O", A13 PerAddr20 (io) "Peripheral Address Bus", A16 PerAddr27 (io) "Peripheral Address Bus", A17 PerAddr30 (io) "Peripheral Address Bus", B5 ~{PerCS}1[GPIO10] (io) "Peripheral Chip Select Bank 1 or General Purpose I/O", B6 PerAddr2 (io) "Peripheral Address Bus", B7 PerAddr5 (io) "Peripheral Address Bus", B8 PerAddr8 (io) "Peripheral Address Bus", B9 PerAddr12 (io) "Peripheral Address Bus", B10 ~{PerCS}4[GPIO13] (io) "Peripheral Chip Select Bank 4 or General Purpose I/O", B11 PerAddr16 (io) "Peripheral Address Bus", B12 PerAddr18 (io) "Peripheral Address Bus", B13 PerAddr21 (io) "Peripheral Address Bus", B14 PerAddr24 (io) "Peripheral Address Bus", C1 PerR/~{W} (io) "Peripheral/DMA Controller Read/Write", C2 PerPar0 (io) "Peripheral Byte Parity Signal", C4 ~{PerWE} (out) "Peripheral Write Enable", C5 ~{PerCS}2[GPIO11] (io) "Peripheral Chip Select Bank 2 or General Purpose I/O", C6 PerAddr4 (io) "Peripheral Address Bus", C7 PerAddr7 (io) "Peripheral Address Bus", C8 PerAddr11 (io) "Peripheral Address Bus", C9 PerAddr14 (io) "Peripheral Address Bus", C10 ~{PerCS}5[GPIO14] (io) "Peripheral Chip Select Bank 5 or General Purpose I/O", C11 ~{PerCS}7[GPIO16] (io) "Peripheral Chip Select Bank 7 or General Purpose I/O", C12 PerAddr22 (io) "Peripheral Address Bus", C13 PerAddr25 (io) "Peripheral Address Bus", C14 PerAddr28 (io) "Peripheral Address Bus", D1 ~{PerWBE}3 (io) "Peripheral Write Byte Enable", D2 ~{PerWBE}0 (io) "Peripheral Write Byte Enable", D6 ~{PerCS}0 (out) "Peripheral Chip Select Bank 0", D7 PerAddr3 (io) "Peripheral Address Bus", D8 PerAddr6 (io) "Peripheral Address Bus", D9 PerAddr10 (io) "Peripheral Address Bus", D10 PerAddr13 (io) "Peripheral Address Bus", D11 PerAddr19 (io) "Peripheral Address Bus", D12 PerAddr23 (io) "Peripheral Address Bus", D13 PerAddr26 (io) "Peripheral Address Bus", D14 PerAddr29 (io) "Peripheral Address Bus", D15 PerAddr31 (io) "Peripheral Address Bus", E1 PerPar2 (io) "Peripheral Byte Parity Signal", E2 ~{PerBLast} (io) ""Last transfer of a memory access" Indicator", E3 PerReady (in) "Peripheral Slave "ready to transfer data" Indicator", E4 ~{PerOE} (out) "Peripheral/DMA Controller Output Enable", F3 ~{PerWBE}2 (io) "Peripheral Write Byte Enable", F4 ~{PerWBE}1 (io) "Peripheral Write Byte Enable", G1 PerData29 (io) "Peripheral Data Bus", G2 PerData30 (io) "Peripheral Data Bus", G3 PerPar1 (io) "Peripheral Byte Parity Signal", H1 PerData25 (io) "Peripheral Data Bus", H2 PerData26 (io) "Peripheral Data Bus", H3 PerData31 (io) "Peripheral Data Bus", H4 PerPar3 (io) "Peripheral Byte Parity Signal", J1 PerData21 (io) "Peripheral Data Bus", J2 PerData22 (io) "Peripheral Data Bus", J3 PerData27 (io) "Peripheral Data Bus", J4 PerData28 (io) "Peripheral Data Bus", K1 PerData20 (io) "Peripheral Data Bus", K2 PerData18 (io) "Peripheral Data Bus", K3 PerData23 (io) "Peripheral Data Bus", K4 PerData24 (io) "Peripheral Data Bus", L2 PerData16 (io) "Peripheral Data Bus", L3 PerData19 (io) "Peripheral Data Bus", L4 PerData14 (io) "Peripheral Data Bus", M1 PerData17 (io) "Peripheral Data Bus", M2 PerData12 (io) "Peripheral Data Bus", M3 PerData15 (io) "Peripheral Data Bus", M4 PerData10 (io) "Peripheral Data Bus", N1 PerData13 (io) "Peripheral Data Bus", N2 PerData8 (io) "Peripheral Data Bus", N3 PerData11 (io) "Peripheral Data Bus", N4 PerData6 (io) "Peripheral Data Bus", P1 PerData9 (io) "Peripheral Data Bus", P3 PerData7 (io) "Peripheral Data Bus", R2 PerData3 (io) "Peripheral Data Bus", R3 PerData4 (io) "Peripheral Data Bus", R4 PerData1 (io) "Peripheral Data Bus", T1 PerData5 (io) "Peripheral Data Bus", U1 PerData2 (io) "Peripheral Data Bus", U2 PerData0 (io) "Peripheral Data Bus (msb)"
part C pins: A2 TDI (in) "Test data in", A8 DMAReq3 (in) "Used by slave peripherals to indicate transfer data readiness", A14 DMAAck3 (out) "Indicates data transfers have occurred", A18 SysErr (out) "Set to 1 when a Machine Check is generated", A19 DMAReq0 (in) "Used by slave peripherals to indicate transfer data readiness", B1 PerErr (in) "External slave peripheral error indicator", B3 TMS (in) "JTAG test mode select", B4 TCK (in) "JTAG test clock", B15 DMAReq2 (in) "Used by slave peripherals to indicate transfer data readiness", B16 DMAAck2 (out) "Indicates data transfers have occurred", B17 DMAAck1 (out) "Indicates data transfers have occurred", B18 GPIO1[TS1E] (io) "General Purpose I/O or Even Trace execution status", B20 TmrClk (in) "External clock input", C15 DMAReq1 (in) "Used by slave peripherals to indicate transfer data readiness", C16 DMAAck0 (out) "Indicates data transfers have occurred", C17 GPIO3[TS1O] (io) "General Purpose I/O or Odd Trace execution status", C19 DrvrInh2 (in) "Driver Inhibit 2", C20 IRQ1[GPIO18] (io) "Interrupt Request or General Purpose I/O", D3 PerClk (out) "Peripheral Clock", D5 TDO (out) "Test data out", D16 GPIO2[TS2E] (io) "General Purpose I/O or Even Trace execution status", D18 IRQ0[GPIO17] (io) "Interrupt Request or General Purpose I/O", D19 ~{SysReset} (io) "Main System Reset", D20 IRQ3[GPIO20] (io) "Interrupt Request or General Purpose I/O", E17 RcvrInh (in) "Receiver Inhibit", E18 IRQ2[GPIO19] (io) "Interrupt Request or General Purpose I/O", E19 ~{Halt} (in) "Halt from external debugger", F2 EOT1/TC1 (io) "End Of Transfer 1/Terminal Count 1", F17 DrvrInh1 (in) "Driver Inhibit 1", F18 IRQ5[GPIO22] (io) "Interrupt Request or General Purpose I/O", F19 TestEn (in) "Test Enable", G4 EOT0/TC0 (io) "End Of Transfer 0/Terminal Count 0", G17 IRQ4[GPIO21] (io) "Interrupt Request or General Purpose I/O", H17 SysClk (in) "Main System Clock input", H19 ~{TRST} (in) "JTAG reset", P2 BusReq (out) "For PPC405CR to regain control of peripheral interface from an external master", P4 ~{ExtReset} (out) "Peripheral Reset", P18 GPIO4[TS2O] (io) "General Purpose I/O or Odd Trace execution status", R18 ~{UART0_DCD} (in) "UART0 Data Carrier Detect", R19 UARTSerClk (in) "UART Serial clock", T3 HoldPri (in) "External Master Priority Indicator", T4 HoldAck (out) "Hold Acknowledge", T17 GPIO5[TS3] (io) "General Purpose I/O or Trace status", T19 UART0_Rx (in) "UART0 Receive (serial data in)", U5 ~{ExtAck} (out) "Data Transfer Cycle Indicator", U13 ~{UART0_DTR} (out) "UART0 Data Terminal Ready", U15 IICSCL (io) "IIC Serial Clock", U16 ~{UART0_DSR} (in) "UART0 Data Set Ready", V2 HoldReq (in) "Hold Request", V6 GPIO9[TrcClk] (io) "General Purpose I/O or Trace interface clock", V7 ~{UART1_DSR}[~{UART1_CTS}] (in) "UART1 Data Set Ready or UART1 Clear To Send", V15 ~{UART0_RI} (in) "UART0 Ring Indicator", V20 ~{UART0_RTS} (out) "UART0 Request To Send", W1 EOT2/TC2 (io) "End Of Transfer 2/Terminal Count 2", W5 UART1_Rx (in) "UART1 Receive (serial data in)", W6 ~{UART1_RTS}[~{UART1_DTR}] (out) "UART1 Request To Send or UART1 Data Terminal Ready", W10 ~{UART0_CTS} (in) "UART0 Clear To Send", W13 GPIO8[TS6] (io) "General Purpose I/O or Trace status", W15 UART0_Tx (out) "UART0 Transmit (serial data out)", W17 IICSDA (io) "IIC Serial Data", W18 GPIO6[TS4] (io) "General Purpose I/O or Trace status", W20 IRQ6[GPIO23] (io) "Interrupt Request or General Purpose I/O", Y2 EOT3/TC3 (io) "End Of Transfer 3/Terminal Count 3", Y3 ~{ExtReq} (in) "External Master "Data transfer preparedness" Indicator", Y5 UART1_Tx (out) "UART1 Transmit (serial data out)", Y19 GPIO7[TS5] (io) "General Purpose I/O or Trace status"
part D pins: A1 GND (power) "Ground", A6 GND (power) "Ground", A10 GND (power) "Ground", A15 GND (power) "Ground", A20 GND (power) "Ground", B2 GND (power) "Ground", B19 GND (power) "Ground", C3 GND (power) "Ground", C18 GND (power) "Ground", D4 GND (power) "Ground", D17 GND (power) "Ground", E5 GND (power) "Ground", E6 OVDD (power) "Output Driver Voltage - 3.3V", E7 OVDD (power) "Output Driver Voltage - 3.3V", E8 VDD (power) "Logic Voltage - 2.5V", E9 VDD (power) "Logic Voltage - 2.5V", E10 GND (power) "Ground", E11 GND (power) "Ground", E12 VDD (power) "Logic Voltage - 2.5V", E13 VDD (power) "Logic Voltage - 2.5V", E14 OVDD (power) "Output Driver Voltage - 3.3V", E15 OVDD (power) "Output Driver Voltage - 3.3V", E16 GND (power) "Ground", E20 AVDD (power) "Filtered voltage input for PLL circuits", F1 GND (power) "Ground", F5 OVDD (power) "Output Driver Voltage - 3.3V", F16 OVDD (power) "Output Driver Voltage - 3.3V", F20 GND (power) "Ground", G5 OVDD (power) "Output Driver Voltage - 3.3V", G16 OVDD (power) "Output Driver Voltage - 3.3V", G19 Reserved "Reserve pin. Connect to GND", H5 VDD (power) "Logic Voltage - 2.5V", H16 VDD (power) "Logic Voltage - 2.5V", J5 VDD (power) "Logic Voltage - 2.5V", J9 GND (power) "Ground. Also a thermal ball", J10 GND (power) "Ground. Also a thermal ball", J11 GND (power) "Ground. Also a thermal ball", J12 GND (power) "Ground. Also a thermal ball", J16 VDD (power) "Logic Voltage - 2.5V", J20 Reserved "Reserve pin. Not to be connected to signals, VDD or GND", K5 GND (power) "Ground", K9 GND (power) "Ground. Also a thermal ball", K10 GND (power) "Ground. Also a thermal ball", K11 GND (power) "Ground. Also a thermal ball", K12 GND (power) "Ground. Also a thermal ball", K16 GND (power) "Ground", K20 GND (power) "Ground", L1 GND (power) "Ground", L5 GND (power) "Ground", L9 GND (power) "Ground. Also a thermal ball", L10 GND (power) "Ground. Also a thermal ball", L11 GND (power) "Ground. Also a thermal ball", L12 GND (power) "Ground. Also a thermal ball", L16 GND (power) "Ground", M5 VDD (power) "Logic Voltage - 2.5V", M9 GND (power) "Ground. Also a thermal ball", M10 GND (power) "Ground. Also a thermal ball", M11 GND (power) "Ground. Also a thermal ball", M12 GND (power) "Ground. Also a thermal ball", M16 VDD (power) "Logic Voltage - 2.5V", N5 VDD (power) "Logic Voltage - 2.5V", N16 VDD (power) "Logic Voltage - 2.5V", P5 OVDD (power) "Output Driver Voltage - 3.3V", P16 OVDD (power) "Output Driver Voltage - 3.3V", R1 GND (power) "Ground", R5 OVDD (power) "Output Driver Voltage - 3.3V", R16 OVDD (power) "Output Driver Voltage - 3.3V", R17 Reserved "Reserve pin. Not to be connected to signals, VDD or GND", R20 GND (power) "Ground", T5 GND (power) "Ground", T6 OVDD (power) "Output Driver Voltage - 3.3V", T7 OVDD (power) "Output Driver Voltage - 3.3V", T8 VDD (power) "Logic Voltage - 2.5V", T9 VDD (power) "Logic Voltage - 2.5V", T10 GND (power) "Ground", T11 GND (power) "Ground", T12 VDD (power) "Logic Voltage - 2.5V", T13 VDD (power) "Logic Voltage - 2.5V", T14 OVDD (power) "Output Driver Voltage - 3.3V", T15 OVDD (power) "Output Driver Voltage - 3.3V", T16 GND (power) "Ground", T20 Reserved "Reserve pin. Not to be connected to signals, VDD or GND", U4 GND (power) "Ground", U17 GND (power) "Ground", V3 GND (power) "Ground", V16 Reserved "Reserve pin. Not to be connected to signals, VDD or GND", V18 GND (power) "Ground", W2 GND (power) "Ground", W19 GND (power) "Ground", Y1 GND (power) "Ground", Y6 GND (power) "Ground", Y11 GND (power) "Ground", Y15 GND (power) "Ground", Y20 GND (power) "Ground"

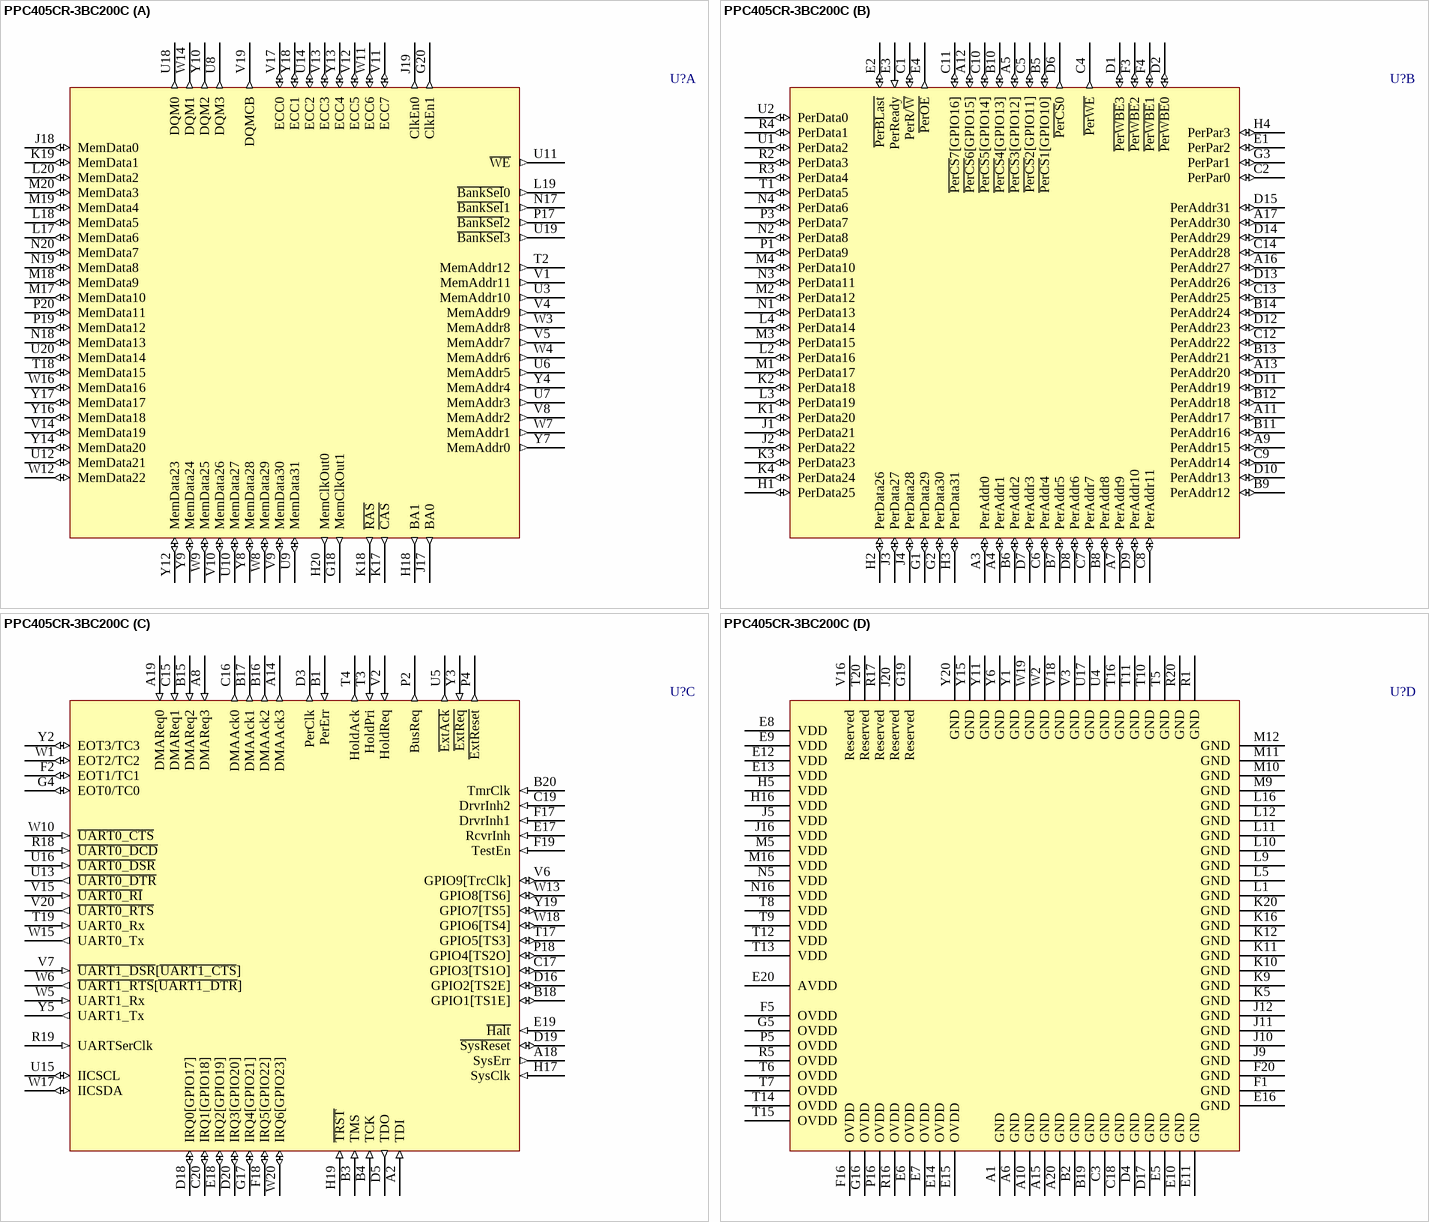
[diagram p12: symbol PPC405CR-3BC200C]